# Altium schematic symbol library SN74CBTLV3257.SchLib: 2 symbols
Pins are listed as number, name and electrical type; pins without a type are passive.

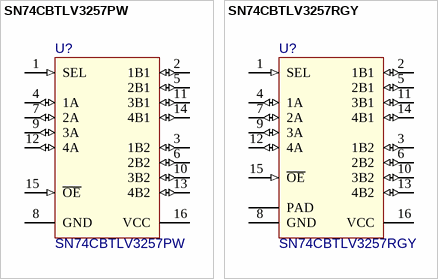
[diagram p0: symbols SN74CBTLV3257PW to SN74CBTLV3257RGY]

## SN74CBTLV3257PW
designator U?
Low-Voltage 4-Bit 1-of-2 FET Multiplexer/Demultiplexer; value: SN74CBTLV3257PW
footprint TSSOP-14 (PW0014A) (TSSOP, 14-Leads, Body 5.00x4.40mm, Pitch 0.65mm, IPC Medium Density)
pins: 1 SEL (in), 2 1B1 (io), 3 1B2 (io), 4 1A (io), 5 2B1 (io), 6 2B2 (io), 7 2A (io), 8 GND (power), 9 3A (io), 10 3B2 (io), 11 3B1 (io), 12 4A (io), 13 4B2 (io), 14 4B1 (io), 15 ~{OE} (in), 16 VCC (power)

## SN74CBTLV3257RGY
designator U?
Low-Voltage 4-Bit 1-of-2 FET Multiplexer/Demultiplexer; value: SN74CBTLV3257RGY
footprint PVQFN-16 (RGY) (PVQFN, 16-Leads, Body 3.50x4.00mm, Pitch 1.50mm/0.50mm, Thermal Pad 2.05x2.55mm, IPC Medium Density)
pins: 1 SEL (in), 2 1B1 (io), 3 1B2 (io), 4 1A (io), 5 2B1 (io), 6 2B2 (io), 7 2A (io), 8 GND (power), 9 3A (io), 10 3B2 (io), 11 3B1 (io), 12 4A (io), 13 4B2 (io), 14 4B1 (io), 15 ~{OE} (in), 16 VCC (power), 17 PAD (power)